# EAGLE library part MCP1406 (library custom-parts)
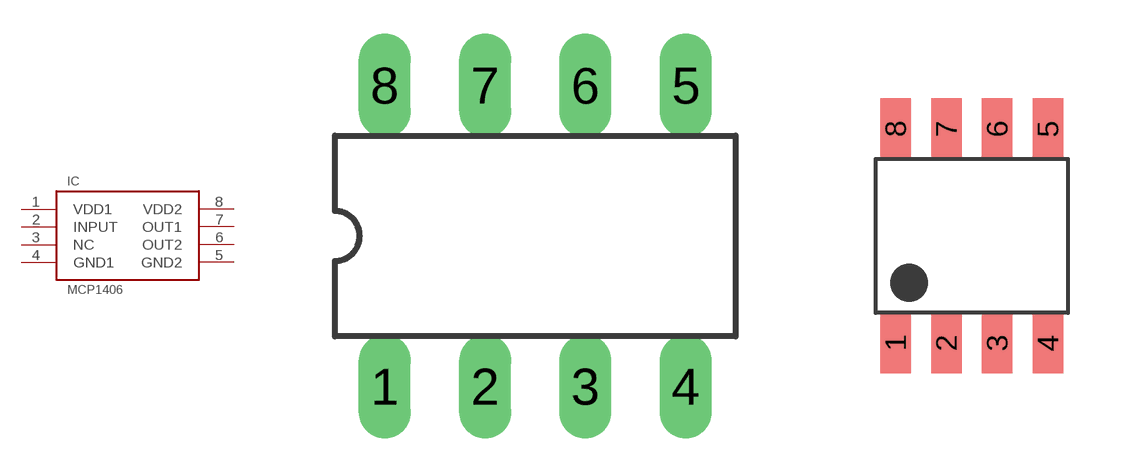
[diagram p1: symbol with the pads of DIL8; footprints DIL8, SOIC-08LG]

Designator prefix IC

## MCP1406DIL8  [DIL8]
1  VDD1
2  INPUT
3  NC
4  GND1
5  GND2
6  OUT2
7  OUT1
8  VDD2

## MCP1406SOIC8  [SOIC-08LG]
Pads as for DIL8

## Footprint DIL8 (pad centres in mm)
Dual In Line package type P
drill 0.813 long: 1 -3.81,-3.81; 2 -1.27,-3.81; 3 1.27,-3.81; 4 3.81,-3.81; 5 3.81,3.81; 6 1.27,3.81; 7 -1.27,3.81; 8 -3.81,3.81

## Footprint SOIC-08LG (pad centres in mm)
8-Lead SOIC (Narrow Body) Package Outline (LG) 4.9x3.9mm body, 1.75mm height (max), 1.27mm pitch Source: www.supertex.com .. led_driver_ics_SG.pdf
smd 0.762 x 1.524: 1 -1.905,-2.675; 2 -0.635,-2.675; 3 0.635,-2.675; 4 1.905,-2.675; 5 1.905,2.675; 6 0.635,2.675; 7 -0.635,2.675; 8 -1.905,2.675